# EAGLE library part TLP283-4 (library optocoupler)
TOSHIBA PHOTOCOUPLER GaAs IRED & PHOTO-TRANSISTOR Source: http://www.semicon.toshiba.co.jp/td/en/Opto/Photocoupler/en_20050928_TLP283_datasheet.pdf
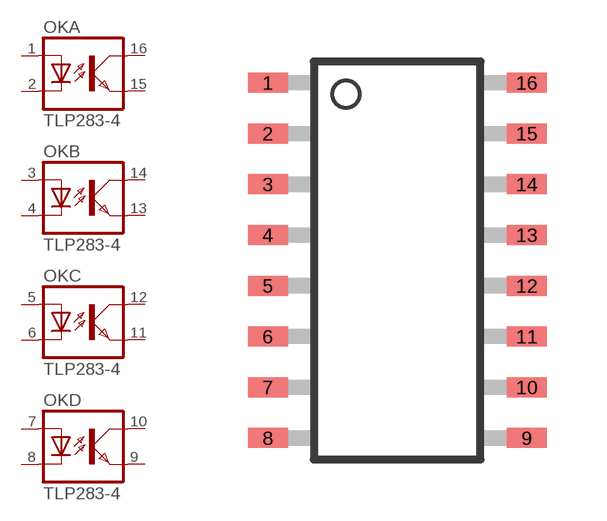
[diagram p40: symbol with the pads of MINI-FLAT-16; footprint MINI-FLAT-16]

Designator prefix OK; gates A=OK B=OK C=OK D=OK

## TLP283-4 (OC_FARNELL: unknown; OC_NEWARK: unknown)  [MINI-FLAT-16]
1  A:A  pas
2  A:C  pas
3  B:A  pas
4  B:C  pas
5  C:A  pas
6  C:C  pas
7  D:A  pas
8  D:C  pas
9  D:EMIT  pas
10  D:COL  pas
11  C:EMIT  pas
12  C:COL  pas
13  B:EMIT  pas
14  B:COL  pas
15  A:EMIT  pas
16  A:COL  pas

## Footprint MINI-FLAT-16 (pad centres in mm)
TOSHIBA PHOTOCOUPLER GaAs IRED & PHOTO-TRANSISTOR 11-10F1 Source: http://www.semicon.toshiba.co.jp/td/en/Opto/Photocoupler/en_20050928_TLP283_datasheet.pdf
smd 1 x 0.5: 1 -3.24,4.445; 2 -3.24,3.175; 3 -3.24,1.905; 4 -3.24,0.635; 5 -3.24,-0.635; 6 -3.24,-1.905; 7 -3.24,-3.175; 8 -3.24,-4.445; 9 3.24,-4.445; 10 3.24,-3.175; 11 3.24,-1.905; 12 3.24,-0.635; 13 3.24,0.635; 14 3.24,1.905; 15 3.24,3.175; 16 3.24,4.445